# Altium schematic symbol library Ferrite Bead.SchLib: 1 symbol
Pins are listed as number, name and electrical type; pins without a type are passive.

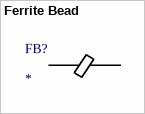
[diagram p0: symbol Ferrite Bead]

## Ferrite Bead
designator FB?
Ferrite Bead; Manufacturer_Name: Wurth Elektronik; Manufacturer_Part_Number: 742792663; Datasheet Link: http://uk.rs-online.com/web/p/products/1634570; Height: 1mm; Mouser Part Number: 710-742792663; Mouser Price/Stock: https://www.mouser.co.uk/ProductDetail/Wurth-Elektronik/742792663?qs=5twSNpOB8IDh8QC3ariB%252BQ%3D%3D
footprint Bead 5
pins: 1, 2